# Altium footprint library resistor-power.PCBLIB: 89 footprints (part 3 of 6)
Each footprint in its own frame and in the unit in brackets; x right, y up, seen from the top. Pads: shape width x height; smd on the part's side, far side on the other; paste and mask are expansions set on the pad; w line width, h text height; cw(c..) or ccw(c..) is an arc to the next point about the centre after c.
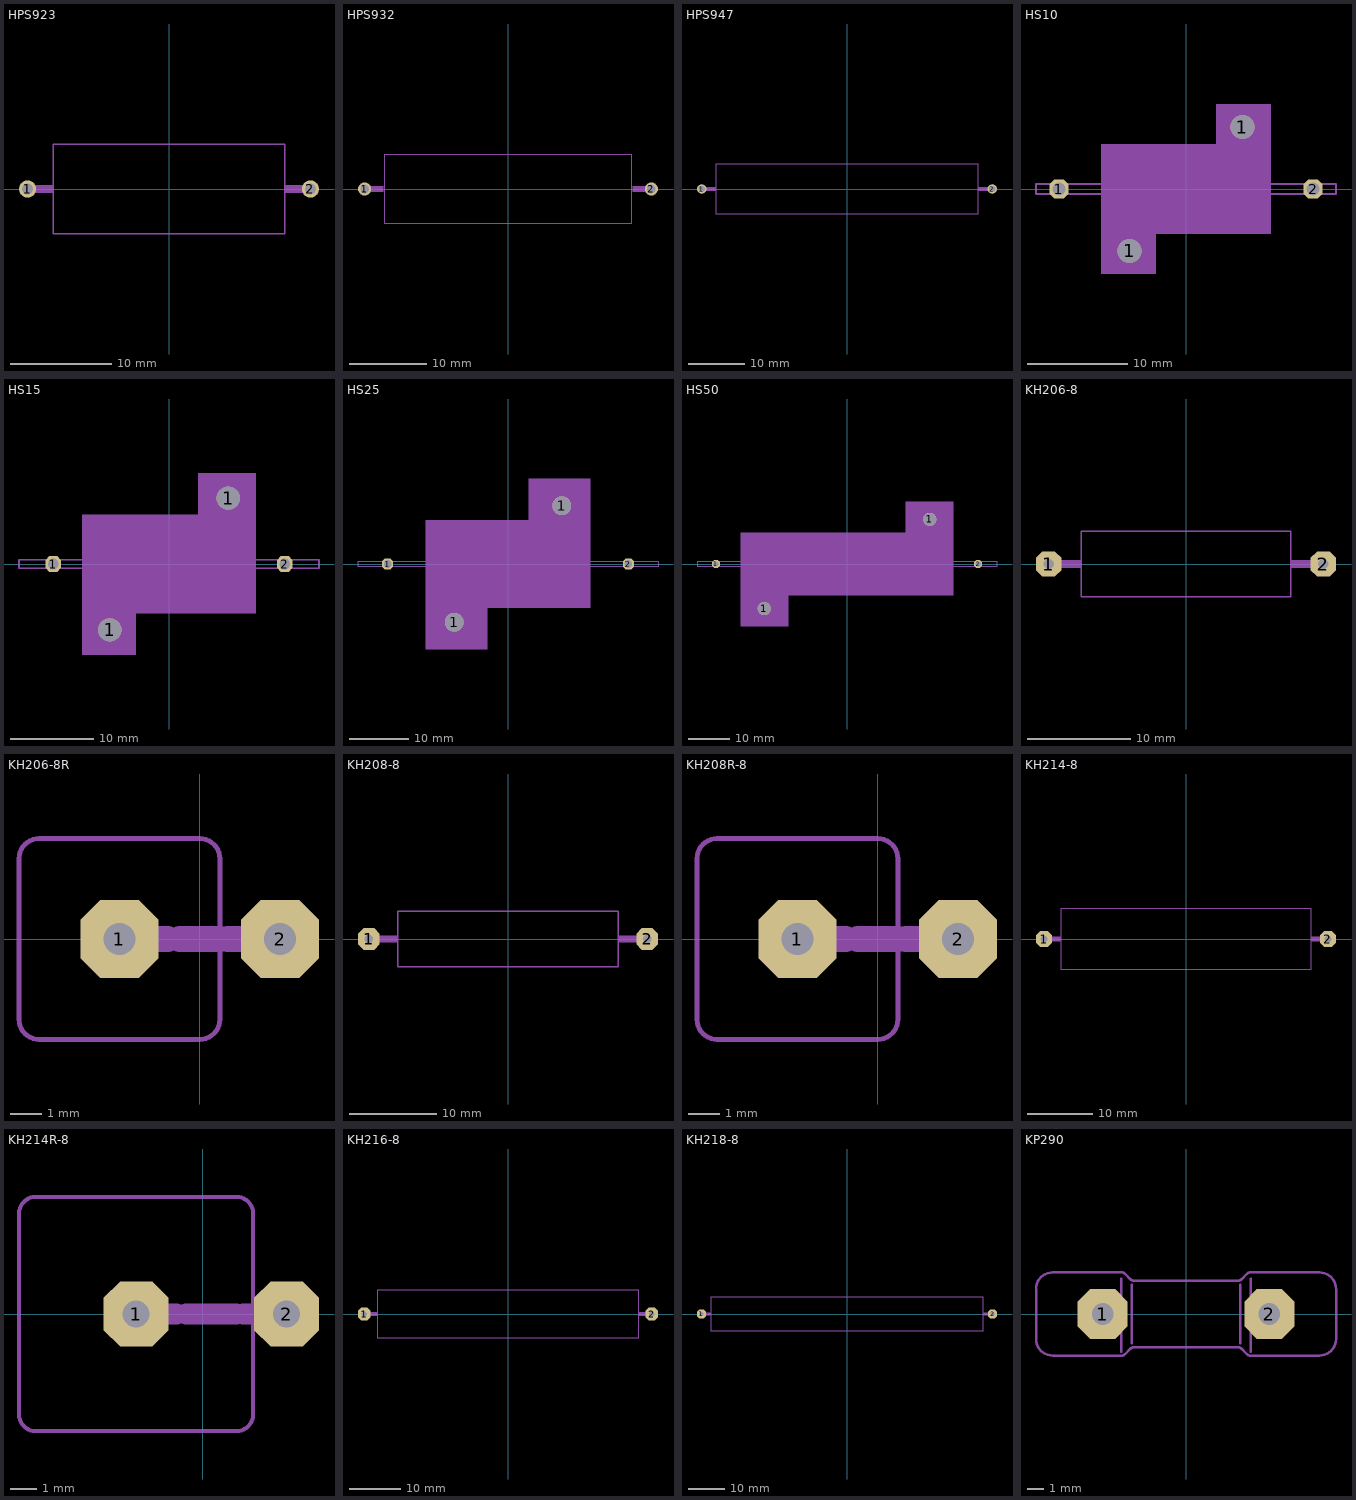
[diagram p2: the footprints below, top view; thin cyan lines are the x and y axes]

## HPS923 [mm]
pads (2):
  round 1.7 hole 1.1: 1(-13.97,0) 2(13.97,0)
Mechanical 2:
  rectangle: -12.06,-0.4 -11.505,0.4
  rectangle: 11.505,-0.4 12.06,0.4
  lines w0.152: -11.43,-4.425 11.43,-4.425 11.43,4.425 -11.43,4.425 -11.43,-4.425
Mechanical 18:
  lines w0.8: -13.97,0 -12.06,0 ; 12.06,0 13.97,0

## HPS932 [mm]
pads (2):
  round 1.7 hole 1.1: 1(-18.47,0) 2(18.47,0)
Mechanical 2:
  rectangle: -16.56,-0.4 -16.005,0.4
  rectangle: 16.005,-0.4 16.56,0.4
  lines w0.152: -15.93,-4.425 15.93,-4.425 15.93,4.425 -15.93,4.425 -15.93,-4.425
Mechanical 18:
  lines w0.8: -18.47,0 -16.56,0 ; 16.56,0 18.47,0

## HPS947 [mm]
pads (2):
  round 1.7 hole 1.1: 1(-25.97,0) 2(25.97,0)
Mechanical 2:
  rectangle: -24.06,-0.4 -23.505,0.4
  rectangle: 23.505,-0.4 24.06,0.4
  lines w0.152: -23.43,-4.425 23.43,-4.425 23.43,4.425 -23.43,4.425 -23.43,-4.425
Mechanical 18:
  lines w0.8: -25.97,0 -24.06,0 ; 24.06,0 25.97,0

## HS10 [mm]
pads (4):
  oct 1.888x1.888 hole 1.3: 1(-12.7,0) 2(12.7,0)
  round 2.4 hole 2.4: 1(-5.65,-6.2) 1(5.65,6.2)
Mechanical 2:
  lines w0.203: -3.35,-4.15 -3.35,-7.85 -8.15,-7.85 -8.15,-4.15 ; -8.15,-4.15 8.15,-4.15 8.15,4.15 ; -8.15,-4.15 -8.15,4.15 3.35,4.15 ; 3.35,4.15 8.15,4.15 ; 3.35,4.15 3.35,7.85 8.15,7.85 8.15,4.15
Mechanical 12:
  rectangle: -8.5,-4.5 8.5,4.5
  rectangle: 3,4.5 8.5,8.5
  rectangle: -8.5,-8.5 -3,-4.5
Mechanical 18:
  lines w0.203: -8.2,-0.5 -15,-0.5 -15,0.5 -8.2,0.5 ; 8.2,-0.5 15,-0.5 15,0.5 8.2,0.5

## HS15 [mil]
pads (4):
  oct 74.33x74.33 hole 51.18: 1(-550,0) 2(550,0)
  round 110.24 hole 110.24: 1(-281.5,-312.99) 1(281.5,312.99)
Mechanical 2:
  lines w8: 167.32,216.54 167.32,409.45 387.8,409.45 387.8,216.54 ; -387.8,-216.54 -387.8,-409.45 -167.32,-409.45 -167.32,-216.54 ; -387.8,-216.54 -167.32,-216.54 ; -387.8,-216.54 -387.8,216.54 387.8,216.54 ; -167.32,-216.54 387.8,-216.54 387.8,216.54
Mechanical 12:
  rectangle: -413.39,-236.22 413.39,236.22
  rectangle: -413.39,-433.07 -157.48,-236.22
  rectangle: 137.8,236.22 413.39,433.07
Mechanical 18:
  lines w8: -393.7,19.69 -712.6,19.69 -712.6,-19.69 -389.76,-19.69 ; 389.76,19.69 712.6,19.69 712.6,-19.69 393.7,-19.69

## HS25 [mm]
pads (4):
  oct 1.888x1.888 hole 1.3: 1(-20.47,0) 2(20.47,0)
  round 3.2 hole 3.2: 1(-9.15,-9.9) 1(9.15,9.9)
Mechanical 2:
  lines w0.203: -4.15,-6.9 -4.15,-13.9 -13.55,-13.9 -13.55,-6.9 ; -13.55,-6.9 13.55,-6.9 13.55,6.9 ; -13.55,-6.9 -13.55,6.9 4.15,6.9 ; 4.15,6.9 13.55,6.9 ; 4.15,6.9 4.15,13.9 13.55,13.9 13.55,6.9
Mechanical 12:
  rectangle: -14,-7.5 14,7.5
  rectangle: 3.5,7.5 14,14.5
  rectangle: -14,-14.5 -3.5,-7.5
Mechanical 18:
  lines w0.203: -13.7,0.5 -25.5,0.5 -25.5,-0.5 -13.6,-0.5 ; 13.6,0.5 25.5,0.5 25.5,-0.5 13.7,-0.5

## HS50 [mm]
pads (4):
  oct 1.888x1.888 hole 1.3: 1(-31.47,0) 2(31.47,0)
  round 3.2 hole 3.2: 1(-19.85,-10.7) 1(19.85,10.7)
Mechanical 2:
  lines w0.203: -14.55,-7 -14.55,-14.55 -24.95,-14.55 -24.95,-7 ; -24.95,-7 24.95,-7 24.95,7 ; -24.95,-7 -24.95,7 14.55,7 ; 14.55,7 24.95,7 ; 14.55,7 14.55,14.55 24.95,14.55 24.95,7
Mechanical 12:
  rectangle: -25.5,-7.5 25.5,7.5
  rectangle: 14,7.5 25.5,15
  rectangle: -25.5,-15 -14,-7.5
Mechanical 18:
  lines w0.203: -25.1,-0.5 -36,-0.5 -36,0.5 -25,0.5 ; 25,-0.5 36,-0.5 36,0.5 25.1,0.5

## KH206-8 [mil]
pads (2):
  oct 96.82x96.82 hole 40: 1(-525,0) 2(525,0)
Mechanical 2:
  rectangle: -446,-16 -400,16
  rectangle: 400,-16 446,16
  lines w6: -400,-125 400,-125 400,125 -400,125 -400,-125
Mechanical 18:
  lines w32: -525,0 -450,0 ; 450,0 525,0

## KH206-8R [mil]
pads (2):
  oct 96.82x96.82 hole 40: 1(-100,0) 2(100,0)
Mechanical 2:
  lines w6: -225,-100 -225,100 cw(c-200,100) -200,125 0,125 cw(c0,100) 25,100 25,0 25,-100 cw(c0,-100) 0,-125 -200,-125 cw(c-200,-100) -225,-100
  lines w32: -25,0 25,0
Mechanical 18:
  lines w32: -100,0 -40,0 ; 35,0 100,0

## KH208-8 [mil]
pads (2):
  oct 96.82x96.82 hole 40: 1(-625,0) 2(625,0)
Mechanical 2:
  rectangle: -547,-16 -495,16
  rectangle: 495,-16 547,16
  lines w6: -495,-125 495,-125 495,125 -495,125 -495,-125
Mechanical 18:
  lines w32: -625,0 -550,0 ; 550,0 625,0

## KH208R-8 [mil]
pads (2):
  oct 96.82x96.82 hole 40: 1(-100,0) 2(100,0)
Mechanical 2:
  lines w6: -225,-100 -225,100 cw(c-200,100) -200,125 0,125 cw(c0,100) 25,100 25,0 25,-100 cw(c0,-100) 0,-125 -200,-125 cw(c-200,-100) -225,-100
  lines w32: -25,0 25,0
Mechanical 18:
  lines w32: -100,0 -40,0 ; 35,0 100,0

## KH214-8 [mil]
pads (2):
  oct 96.82x96.82 hole 40: 1(-850,0) 2(850,0)
Mechanical 2:
  rectangle: 750,-16 795,16
  rectangle: -795,-16 -750,16
  lines w6: -750,-180 750,-180 750,180 -750,180 -750,-180
Mechanical 18:
  lines w32: -850,0 -800,0 ; 800,0 850,0

## KH214R-8 [mil]
pads (2):
  oct 96.82x96.82 hole 40: 1(-100,0) 2(125,0)
Mechanical 2:
  lines w6: 75,-35 75,-150 cw(c50,-150) 50,-175 -250,-175 cw(c-250,-150) -275,-150 -275,150 cw(c-250,150) -250,175 50,175 cw(c50,150) 75,150 75,35
  lines w32: -25,0 50,0
Mechanical 18:
  lines w6: 75,-35 75,35
  lines w32: -100,0 -40,0 ; 60,0 125,0

## KH216-8 [mil]
pads (2):
  oct 96.82x96.82 hole 40: 1(-1100,0) 2(1100,0)
Mechanical 2:
  rectangle: 1000,-16 1045,16
  rectangle: -1045,-16 -1000,16
  lines w6: -1000,-180 1000,-180 1000,180 -1000,180 -1000,-180
Mechanical 18:
  lines w32: -1100,0 -1050,0 ; 1050,0 1100,0

## KH218-8 [mil]
pads (2):
  oct 96.82x96.82 hole 40: 1(-1575,0) 2(1575,0)
Mechanical 2:
  rectangle: 1475,-16 1520,16
  rectangle: -1520,-16 -1475,16
  lines w6: -1475,-180 1475,-180 1475,180 -1475,180 -1475,-180
Mechanical 18:
  lines w32: -1575,0 -1525,0 ; 1525,0 1575,0

## KP290 [mil]
pads (2):
  oct 120.06x120.06 hole 52: 1(-200,0) 2(200,0)
Mechanical 2:
  lines w6: -155,-90 -155,-60 ; -155,60 -155,85 ; -130,-70 -130,-26.93 ; -130,26.93 -130,70 ; 130,-70 130,-26.93 ; 130,26.93 130,70 ; 155,-90 155,-60 ; 155,60 155,85 ; -360,-60 -360,60 cw(c-320,60) -320,100 -154.14,100 cw(c-154.14,90) -147.07,97.07 -132.93,82.93 ccw(c-125.86,90) -125.86,80 125.86,80 ccw(c125.86,90) 132.93,82.93 147.07,97.07 cw(c154.14,90) 154.14,100 320,100 cw(c320,60) 360,60 360,-60 cw(c320,-60) 320,-100 154.14,-100 cw(c154.14,-90) 147.07,-97.07 132.93,-82.93 ccw(c125.86,-90) 125.86,-80 -125.86,-80 ccw(c-125.86,-90) -132.93,-82.93 -147.07,-97.07 cw(c-154.14,-90) -154.14,-100 -320,-100 cw(c-320,-60) -360,-60
Mechanical 18:
  lines w6: -155,-60 -155,60 ; -130,-26.93 -130,26.93 ; 130,-26.93 130,26.93 ; 155,-60 155,60